# Altium schematic symbol library Components - 03.06.24 - 19.09.SchLib: 1 symbol
Pins are listed as number, name and electrical type; pins without a type are passive.

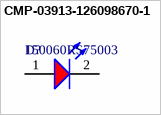
[diagram p0: symbol CMP-03913-126098670-1]

## CMP-03913-126098670-1
designator D?, comment 150060RS75003
150060RS75003 SMT Mono-Color Chip LED Waterclear Advance; NexarPartId: 126098670; Viewing Angle: 140°; Dominant Wavelength: 615nm; Luminous Intensity: 530mcd; Forward Voltage: 2V; Forward Current: 100mA; Peak Wavelength: 630nm; Max Reverse Voltage (DC): 5V; Max Operating Temperature: 100°C; Min Operating Temperature: -40°C; RoHS: Compliant
footprint WL-SMCW_0603_150060xx75003 (SMD Mono-color Chip LED, body 1.6x0.8mm)
pins: 1 A, 2 K